# Altium footprint library 3.06-跳线座.PcbLib: 48 footprints (part 3 of 3)
Each footprint in its own frame and in the unit in brackets; x right, y up, seen from the top. Pads: shape width x height; smd on the part's side, far side on the other; paste and mask are expansions set on the pad; w line width, h text height; cw(c..) or ccw(c..) is an arc to the next point about the centre after c.
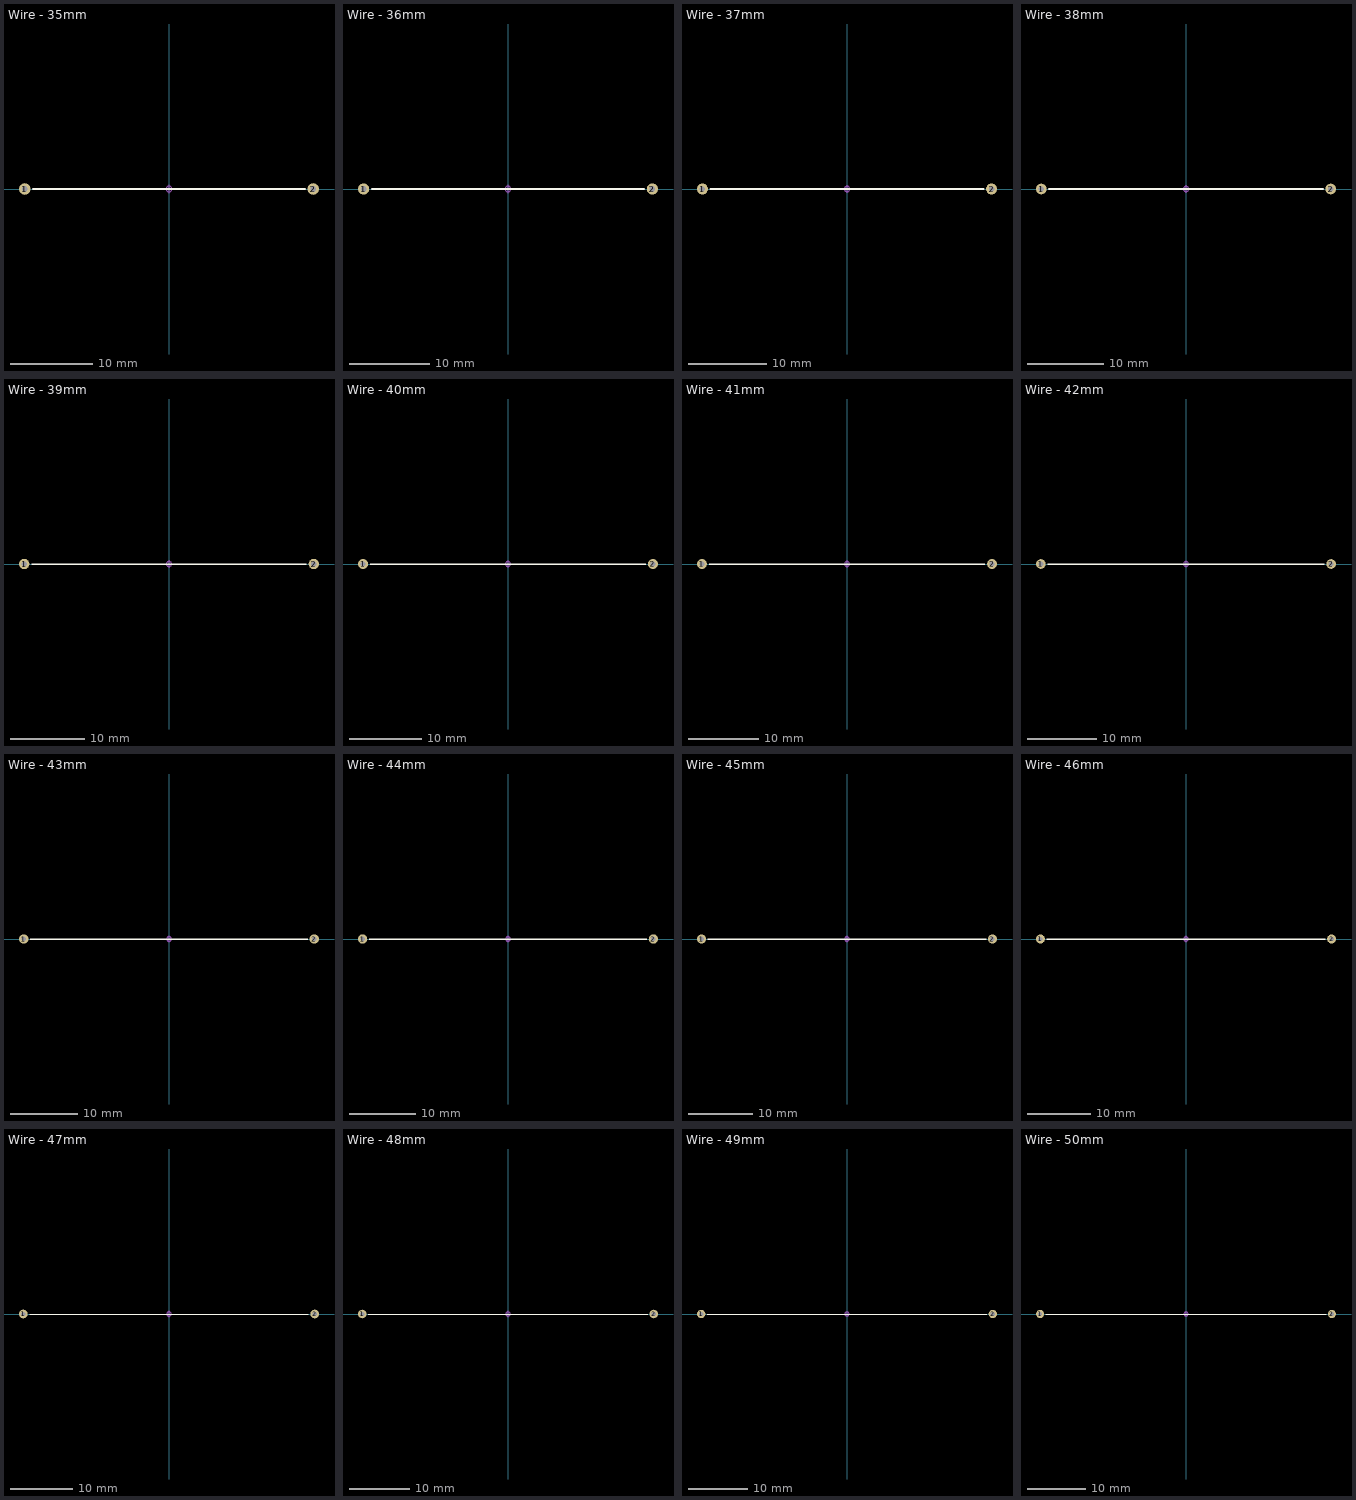
[diagram p2: the footprints below, top view; thin cyan lines are the x and y axes]

## Wire - 35mm [mm] "直接：0.5mm，脚距：35mm      [ PCB学习群514746572 ]"
pads (2):
  round 1.4 hole 0.7: 1(-17.5,0) 2(17.5,0)
Top Overlay:
  lines w0.2: -16.5,0 16.5,0
Mechanical 15:
  circle w0.05: c0,0 r0.35
  lines w0.05: -0.5,0 0.5,0 ; 0,-0.5 0,0.5
3D body "Wire - 35mm.STEP": height 0.95, standoff -2.8, extent -17.75,-0.25 17.75,0.25

## Wire - 36mm [mm] "直接：0.5mm，脚距：36mm      [ PCB学习群514746572 ]"
pads (2):
  round 1.4 hole 0.7: 1(-18,0) 2(18,0)
Top Overlay:
  lines w0.2: -17,0 17,0
Mechanical 15:
  circle w0.05: c0,0 r0.35
  lines w0.05: -0.5,0 0.5,0 ; 0,-0.5 0,0.5
3D body "Wire - 36mm.STEP": height 0.95, standoff -2.8, extent -18.25,-0.25 18.25,0.25

## Wire - 37mm [mm] "直接：0.5mm，脚距：37mm      [ PCB学习群514746572 ]"
pads (2):
  round 1.4 hole 0.7: 1(-18.5,0) 2(18.5,0)
Top Overlay:
  lines w0.2: -17.5,0 17.5,0
Mechanical 15:
  circle w0.05: c0,0 r0.35
  lines w0.05: -0.5,0 0.5,0 ; 0,-0.5 0,0.5
3D body "Wire - 37mm.STEP": height 0.95, standoff -2.8, extent -18.75,-0.25 18.75,0.25

## Wire - 38mm [mm] "直接：0.5mm，脚距：38mm      [ PCB学习群514746572 ]"
pads (2):
  round 1.4 hole 0.7: 1(-19,0) 2(19,0)
Top Overlay:
  lines w0.2: -18,0 18,0
Mechanical 15:
  circle w0.05: c0,0 r0.35
  lines w0.05: -0.5,0 0.5,0 ; 0,-0.5 0,0.5
3D body "Wire - 38mm.STEP": height 0.95, standoff -2.8, extent -19.25,-0.25 19.25,0.25

## Wire - 39mm [mm] "直接：0.5mm，脚距：39mm      [ PCB学习群514746572 ]"
pads (2):
  round 1.4 hole 0.7: 1(-19.5,0) 2(19.5,0)
Top Overlay:
  lines w0.2: -18.5,0 18.5,0
Mechanical 15:
  circle w0.05: c0,0 r0.35
  lines w0.05: -0.5,0 0.5,0 ; 0,-0.5 0,0.5
3D body "Wire - 39mm.STEP": height 0.95, standoff -2.8, extent -19.75,-0.25 19.75,0.25

## Wire - 40mm [mm] "直接：0.5mm，脚距：40mm      [ PCB学习群514746572 ]"
pads (2):
  round 1.4 hole 0.7: 1(-20,0) 2(20,0)
Top Overlay:
  lines w0.2: -19,0 19,0
Mechanical 15:
  circle w0.05: c0,0 r0.35
  lines w0.05: -0.5,0 0.5,0 ; 0,-0.5 0,0.5
3D body "Wire - 40mm.STEP": height 0.95, standoff -2.8, extent -20.25,-0.25 20.25,0.25

## Wire - 41mm [mm] "直接：0.5mm，脚距：41mm      [ PCB学习群514746572 ]"
pads (2):
  round 1.4 hole 0.7: 1(-20.5,0) 2(20.5,0)
Top Overlay:
  lines w0.2: -19.5,0 19.5,0
Mechanical 15:
  circle w0.05: c0,0 r0.35
  lines w0.05: -0.5,0 0.5,0 ; 0,-0.5 0,0.5
3D body "Wire - 41mm.STEP": height 0.95, standoff -2.8, extent -20.75,-0.25 20.75,0.25

## Wire - 42mm [mm] "直接：0.5mm，脚距：42mm      [ PCB学习群514746572 ]"
pads (2):
  round 1.4 hole 0.7: 1(-21,0) 2(21,0)
Top Overlay:
  lines w0.2: -20,0 20,0
Mechanical 15:
  circle w0.05: c0,0 r0.35
  lines w0.05: -0.5,0 0.5,0 ; 0,-0.5 0,0.5
3D body "Wire - 42mm.STEP": height 0.95, standoff -2.8, extent -21.25,-0.25 21.25,0.25

## Wire - 43mm [mm] "直接：0.5mm，脚距：43mm      [ PCB学习群514746572 ]"
pads (2):
  round 1.4 hole 0.7: 1(-21.5,0) 2(21.5,0)
Top Overlay:
  lines w0.2: -20.5,0 20.5,0
Mechanical 15:
  circle w0.05: c0,0 r0.35
  lines w0.05: -0.5,0 0.5,0 ; 0,-0.5 0,0.5
3D body "Wire - 43mm.STEP": height 0.95, standoff -2.8, extent -21.75,-0.25 21.75,0.25

## Wire - 44mm [mm] "直接：0.5mm，脚距：44mm      [ PCB学习群514746572 ]"
pads (2):
  round 1.4 hole 0.7: 1(-22,0) 2(22,0)
Top Overlay:
  lines w0.2: -21,0 21,0
Mechanical 15:
  circle w0.05: c0,0 r0.35
  lines w0.05: -0.5,0 0.5,0 ; 0,-0.5 0,0.5
3D body "Wire - 44mm.STEP": height 0.95, standoff -2.8, extent -22.25,-0.25 22.25,0.25

## Wire - 45mm [mm] "直接：0.5mm，脚距：45mm      [ PCB学习群514746572 ]"
pads (2):
  round 1.4 hole 0.7: 1(-22.5,0) 2(22.5,0)
Top Overlay:
  lines w0.2: -21.5,0 21.5,0
Mechanical 15:
  circle w0.05: c0,0 r0.35
  lines w0.05: -0.5,0 0.5,0 ; 0,-0.5 0,0.5
3D body "Wire - 45mm.STEP": height 0.95, standoff -2.8, extent -22.75,-0.25 22.75,0.25

## Wire - 46mm [mm] "直接：0.5mm，脚距：46mm      [ PCB学习群514746572 ]"
pads (2):
  round 1.4 hole 0.7: 1(-23,0) 2(23,0)
Top Overlay:
  lines w0.2: -22,0 22,0
Mechanical 15:
  circle w0.05: c0,0 r0.35
  lines w0.05: -0.5,0 0.5,0 ; 0,-0.5 0,0.5
3D body "Wire - 46mm.STEP": height 0.95, standoff -2.8, extent -23.25,-0.25 23.25,0.25

## Wire - 47mm [mm] "直接：0.5mm，脚距：47mm      [ PCB学习群514746572 ]"
pads (2):
  round 1.4 hole 0.7: 1(-23.5,0) 2(23.5,0)
Top Overlay:
  lines w0.2: -22.5,0 22.5,0
Mechanical 15:
  circle w0.05: c0,0 r0.35
  lines w0.05: -0.5,0 0.5,0 ; 0,-0.5 0,0.5
3D body "Wire - 47mm.STEP": height 0.95, standoff -2.8, extent -23.75,-0.25 23.75,0.25

## Wire - 48mm [mm] "直接：0.5mm，脚距：48mm      [ PCB学习群514746572 ]"
pads (2):
  round 1.4 hole 0.7: 1(-24,0) 2(24,0)
Top Overlay:
  lines w0.2: -23,0 23,0
Mechanical 15:
  circle w0.05: c0,0 r0.35
  lines w0.05: -0.5,0 0.5,0 ; 0,-0.5 0,0.5
3D body "Wire - 48mm.STEP": height 0.95, standoff -2.8, extent -24.25,-0.25 24.25,0.25

## Wire - 49mm [mm] "直接：0.5mm，脚距：49mm      [ PCB学习群514746572 ]"
pads (2):
  round 1.4 hole 0.7: 1(-24.5,0) 2(24.5,0)
Top Overlay:
  lines w0.2: -23.5,0 23.5,0
Mechanical 15:
  circle w0.05: c0,0 r0.35
  lines w0.05: -0.5,0 0.5,0 ; 0,-0.5 0,0.5
3D body "Wire - 49mm.STEP": height 0.95, standoff -2.8, extent -24.75,-0.25 24.75,0.25

## Wire - 50mm [mm] "直接：0.5mm，脚距：50mm      [ PCB学习群514746572 ]"
pads (2):
  round 1.4 hole 0.7: 1(-25,0) 2(25,0)
Top Overlay:
  lines w0.2: -24,0 24,0
Mechanical 15:
  circle w0.05: c0,0 r0.35
  lines w0.05: -0.5,0 0.5,0 ; 0,-0.5 0,0.5
3D body "Wire - 50mm.STEP": height 0.95, standoff -2.8, extent -25.25,-0.25 25.25,0.25